# Altium schematic symbol library AP62200Z6-7.SchLib: 1 symbol
Pins are listed as number, name and electrical type; pins without a type are passive.

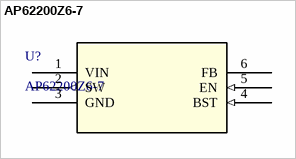
[diagram p0: symbol AP62200Z6-7]

## AP62200Z6-7
designator U?
Description; Manufacturer_Name: Diodes Inc; Copyright: Copyright (C) 2025 Ultra Librarian. All rights reserved.; Manufacturer_Part_Number: AP62200Z6-7; RefDes: RefDes; Type: Type
footprint SOT563-Z6_1_DIO
pins: 1 VIN (power), 2 SW (out), 3 GND (power), 4 BST (in), 5 EN (in), 6 FB